# EAGLE library part ATF22V10C (library cpld)
ATF22V10 - programmable logic device
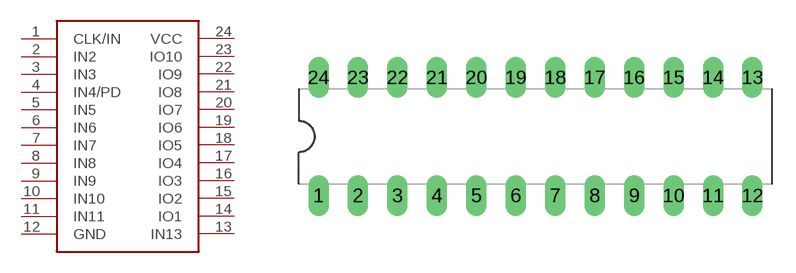
[diagram p0: symbol with the pads of DIP24SKI; footprint DIP24SKI]

Designator prefix IC

## ATF22V10C  [DIP24SKI]
1  CLK/IN
2  IN2
3  IN3
4  IN4/PD
5  IN5
6  IN6
7  IN7
8  IN8
9  IN9
10  IN10
11  IN11
12  GND
13  IN13
14  IO1
15  IO2
16  IO3
17  IO4
18  IO5
19  IO6
20  IO7
21  IO8
22  IO9
23  IO10
24  VCC

## Footprint DIP24SKI (pad centres in mm)
Dual In Line
drill 0.813 pad 1.27 long: 1 -11.43,-3.81; 2 -8.89,-3.81; 3 -6.35,-3.81; 4 -3.81,-3.81; 5 -1.27,-3.81; 6 1.27,-3.81; 7 3.81,-3.81; 8 6.35,-3.81; 9 8.89,-3.81; 10 11.43,-3.81; 11 13.97,-3.81; 12 16.51,-3.81; 13 16.51,3.81; 14 13.97,3.81; 15 11.43,3.81; 16 8.89,3.81; 17 6.35,3.81; 18 3.81,3.81; 19 1.27,3.81; 20 -1.27,3.81; 21 -3.81,3.81; 22 -6.35,3.81; 23 -8.89,3.81; 24 -11.43,3.81